# Altium footprint library mainboard.PcbLib: 14 footprints
Each footprint in its own frame and in the unit in brackets; x right, y up, seen from the top. Pads: shape width x height; smd on the part's side, far side on the other; paste and mask are expansions set on the pad; w line width, h text height; cw(c..) or ccw(c..) is an arc to the next point about the centre after c.
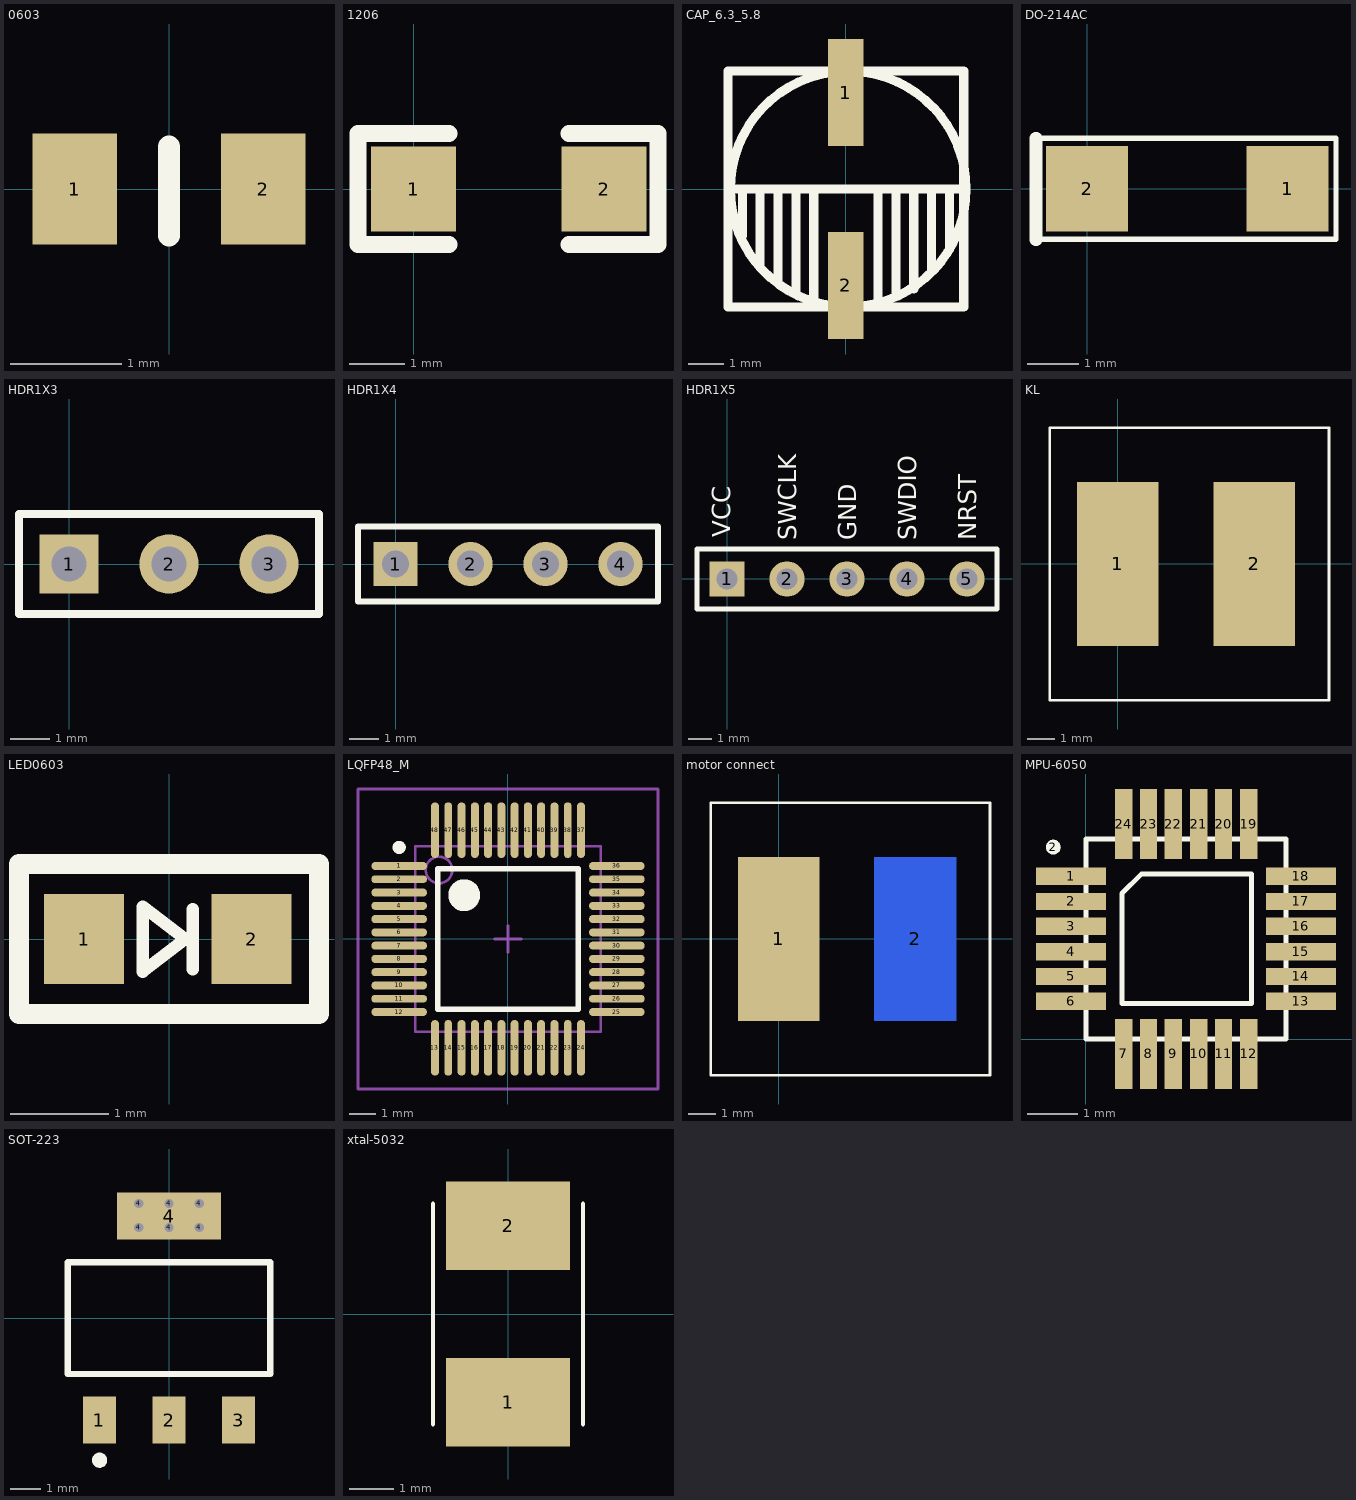
[diagram p0: the footprints below, top view; thin cyan lines are the x and y axes]

## 0603 [mm]
pads (2):
  rect 0.76x1 smd: 1(-0.85,0) 2(0.85,0)
Top Overlay:
  lines w0.2: 0,-0.419 0,0.381

## 1206 [mil]
pads (2):
  rect 60x60 smd: 1(0,0) 2(135,0)
Top Overlay:
  lines w12: 25,-39.37 -39.37,-39.37 -39.37,39.37 25,39.37 ; 110,-39.37 173.23,-39.37 173.23,39.37 110,39.37

## CAP_6.3_5.8 [mm]
pads (2):
  rect 1x3 smd: 1(0,2.7) 2(0,-2.7)
Top Overlay:
  circle w0.254: c0.063,0 r3.3
  lines w0.254: -3.3,0 3.3,0 ; -2.9,-1.3 -2.9,0 ; -2.4,-2.2 -2.4,0 ; -1.9,-2.6 -1.9,0 ; -1.4,-2.9 -1.4,0 ; -0.9,-3.3 -0.9,0 ; 0.9,-3.3 0.9,0 ; 1.4,-3 1.4,0 ; 1.9,-2.8 1.9,0 ; 2.4,-2.3 2.4,0 ; 2.9,-1.7 2.9,-1.4 2.9,0 ; -3.3,-3.3 -3.3,3.3 3.3,3.3 3.3,-3.3 -3.3,-3.3

## DO-214AC [mm]
pads (2):
  rect 1.6x1.67 smd: 1(3.93,0) 2(0,0)
Top Overlay:
  lines w0.1: -1,0.99 4.88,0.99 4.88,-0.99 -0.97,-0.99
  lines w0.254: -1,-1 -1,0.99

## HDR1X3 [mm] "Connector; Header; 3 Position"
pads (3):
  rect 1.5x1.5 hole 0.9: 1(0,0)
  round 1.5 hole 0.9: 2(2.54,0) 3(5.08,0)
Top Overlay:
  lines w0.2: -1.27,-1.27 -1.27,1.27 6.35,1.27 6.35,-1.27 -1.27,-1.27

## HDR1X4 [mm] "Connector; Header; 4 Position"
pads (4):
  rect 1.5x1.5 hole 0.9: 1(0,0)
  round 1.5 hole 0.9: 2(2.54,0) 3(5.08,0) 4(7.62,0)
Top Overlay:
  lines w0.2: -1.27,-1.27 -1.27,1.27 8.89,1.27 8.89,-1.27 -1.27,-1.27

## HDR1X5 [mm] "Connector; Header; 5 Position"
pads (5):
  rect 1.5x1.5 hole 0.9: 1(0,0)
  round 1.5 hole 0.9: 2(2.54,0) 3(5.08,0) 4(7.62,0) 5(10.16,0)
Top Overlay:
  lines w0.2: -1.27,-1.27 11.43,-1.27 11.43,1.27 -1.27,1.27 -1.27,-1.27
  text "VCC" at 0.127,1.778 h0.76
  text "SWCLK" at 2.921,1.651 h0.76
  text "GND" at 5.461,1.651 h0.76
  text "SWDIO" at 8.001,1.651 h0.76
  text "NRST" at 10.541,1.651 h0.76

## KL [mm]
pads (2):
  rect 3x6 smd: 1(0,0) 2(5,0)
Top Overlay:
  lines w0.1: -2.5,-5 -2.5,5 7.747,5 7.747,-5 -2.5,-5

## LED0603 [mil] "LED0603"
pads (2):
  rect 32x36 smd: 1(-34,0) 2(33,0)
Top Overlay:
  lines w5: 9.5,-12 9.5,12 ; -10.5,-13 6.5,0 -10.5,13 -10.5,-13
  lines w8: -60,-30 60,-30 60,30 -60,30 -60,-30

## LQFP48_M [mm] "Thin QFP, 48-Leads, Body 7x7mm, Pitch 0.5mm, IPC Low Density"
height 1.6
pads (48):
  oval 2.1x0.3 smd: 1(-4.1,2.75) 2(-4.1,2.25) 3(-4.1,1.75) 4(-4.1,1.25) 5(-4.1,0.75) 6(-4.1,0.25) 7(-4.1,-0.25) 8(-4.1,-0.75) 9(-4.1,-1.25) 10(-4.1,-1.75) 11(-4.1,-2.25) 12(-4.1,-2.75) 25(4.1,-2.75) 26(4.1,-2.25) 27(4.1,-1.75) 28(4.1,-1.25) 29(4.1,-0.75) 30(4.1,-0.25) 31(4.1,0.25) 32(4.1,0.75) 33(4.1,1.25) 34(4.1,1.75) 35(4.1,2.25) 36(4.1,2.75)
  oval 0.3x2.1 smd: 13(-2.75,-4.1) 14(-2.25,-4.1) 15(-1.75,-4.1) 16(-1.25,-4.1) 17(-0.75,-4.1) 18(-0.25,-4.1) 19(0.25,-4.1) 20(0.75,-4.1) 21(1.25,-4.1) 22(1.75,-4.1) 23(2.25,-4.1) 24(2.75,-4.1) 37(2.75,4.1) 38(2.25,4.1) 39(1.75,4.1) 40(1.25,4.1) 41(0.75,4.1) 42(0.25,4.1) 43(-0.25,4.1) 44(-0.75,4.1) 45(-1.25,4.1) 46(-1.75,4.1) 47(-2.25,4.1) 48(-2.75,4.1)
Top Overlay:
  circle w0.6: c-1.65,1.65 r0.3
  circle w0.25: c-4.1,3.45 r0.125
  lines w0.2: -2.65,-2.65 2.65,-2.65 2.65,2.65 -2.65,2.65 -2.65,-2.65
Mechanical 13:
  circle w0.1: c-2.6,2.6 r0.5
  lines w0.1: -3.5,-3.5 3.5,-3.5 3.5,3.5 -3.5,3.5 -3.5,-3.5
Mechanical 15:
  lines w0.1: -0.5,0 0.5,0 ; 0,-0.5 0,0.5 ; -5.65,-5.65 5.65,-5.65 5.65,5.65 -5.65,5.65 -5.65,-5.65
3D body: height 1.6, standoff 0, extent -3.5,-3.5 3.5,3.5

## motor connect [mm]
pads (2):
  rect 3x6 smd: 1(0,0)
  rect 3x6 smd far side: 2(5,0)
Top Overlay:
  lines w0.1: -2.5,-5 -2.5,5 7.747,5 7.747,-5 -2.5,-5

## MPU-6050 [mm]
pads (25):
  rect 1.4x0.35 smd: 1(-0.3,3.25) 2(-0.3,2.75) 3(-0.3,2.25) 4(-0.3,1.75) 5(-0.3,1.25) 6(-0.3,0.75) 13(4.3,0.75) 14(4.3,1.25) 15(4.3,1.75) 16(4.3,2.25) 17(4.3,2.75) 18(4.3,3.25)
  round 0.3 on Top Overlay: 2(-0.655,3.837)
  rect 0.35x1.4 smd: 7(0.75,-0.3) 8(1.25,-0.3) 9(1.75,-0.3) 10(2.25,-0.3) 11(2.75,-0.3) 12(3.25,-0.3) 19(3.25,4.3) 20(2.75,4.3) 21(2.25,4.3) 22(1.75,4.3) 23(1.25,4.3) 24(0.75,4.3)
Top Overlay:
  lines w0.1: 0,0 0,4 4,4 4,0 0,0 ; 0.717,0.709 3.315,0.709 3.315,3.297 1.106,3.297 0.717,2.909 0.717,0.709

## SOT-223 [mm]
pads (10):
  rect 1.1x1.55 smd: 1(-2.3,-3.375) 2(0,-3.375) 3(2.3,-3.375)
  round 0.3 hole 0.3: 4(-1,3.8) 4(-1,3) 4(0,3) 4(0,3.8) 4(1,3) 4(1,3.8)
  rect 3.45x1.55 smd: 4(0,3.375)
Top Overlay:
  circle w0.25: c-2.3,-4.7 r0.125
  lines w0.2: -3.35,-1.85 3.35,-1.85 3.35,1.85 -3.35,1.85 -3.35,-1.85

## xtal-5032 [mm]
pads (2):
  rect 2.8x2 smd: 1(0,-2) 2(0,2)
Top Overlay:
  lines w0.1: -1.7,-2.5 -1.7,2.5 ; 1.7,-2.5 1.7,2.5